# EAGLE library part LM13700 (library OTAs)
Dual OTA with linearizing diode and output buffers - 2MHz open-loop bandwidth - Linearizing diodes reduces distortion at higher differential input voltages - Darlington output buffers enables low-impedance output LM13700 or LM13600 The LM13700 differs from the LM13600 in that the 13700's output buffers are biased independently from the transconductance amplifier, allowing superior performance in audio applications. Originally released by National Semiconductor Manufactured by Texas Instruments.
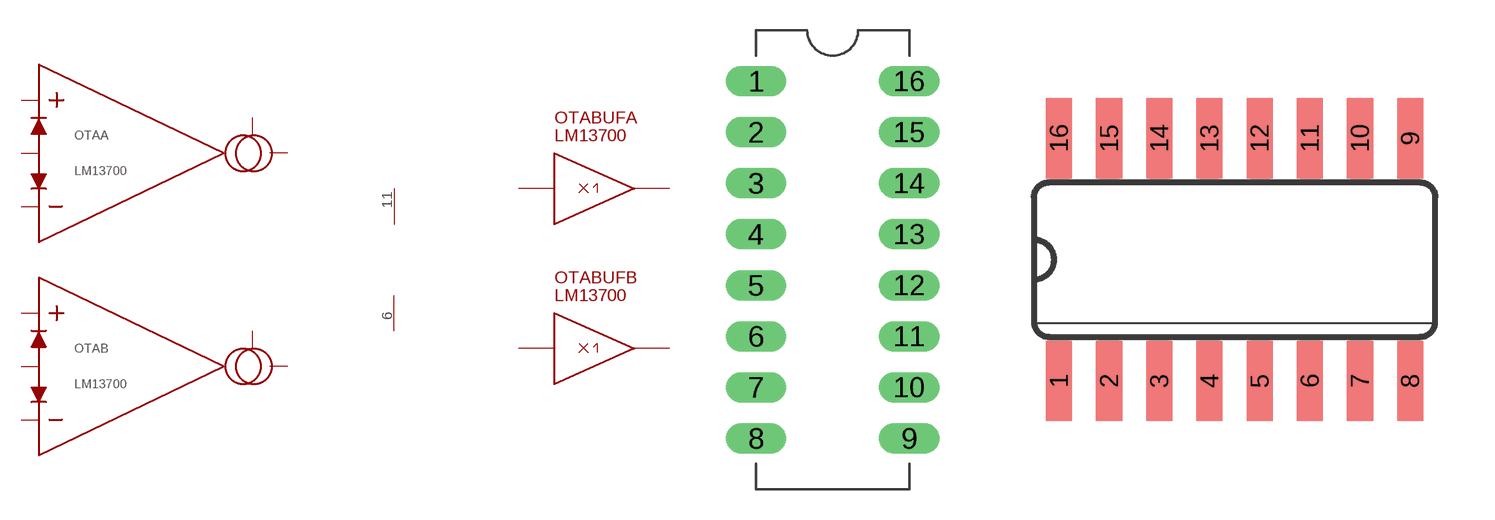
[diagram p0: symbol with the pads of DIP16; footprints DIP16, SO16]

Designator prefix OTA; gates A=OTA B=OTA PWR=POWERPIN BUFA=BUFFER BUFB=BUFFER

## LM13700N  [DIP16]
1  A:IABC  in
2  A:BIAS  in
3  A:IN+  in
4  A:IN-  in
5  A:IOUT  out
6  PWR:VEE  pwr
7  BUFA:IN
8  BUFA:OUT
9  BUFB:OUT
10  BUFB:IN
11  PWR:VCC  pwr
12  B:IOUT  out
13  B:IN-  in
14  B:IN+  in
15  B:BIAS  in
16  B:IABC  in

## LM13700M  [SO16]
1  A:IABC  in
2  A:BIAS  in
3  A:IN+  in
4  A:IN-  in
5  A:IOUT  out
6  PWR:VCC  pwr
7  BUFA:IN
8  BUFA:OUT
9  BUFB:OUT
10  BUFB:IN
11  PWR:VEE  pwr
12  B:IOUT  out
13  B:IN-  in
14  B:IN+  in
15  B:BIAS  in
16  B:IABC  in

## Footprint DIP16 (pad centres in mm)
drill 1 long: 1 -3.81,0; 2 -3.81,-2.54; 3 -3.81,-5.08; 4 -3.81,-7.62; 5 -3.81,-10.16; 6 -3.81,-12.7; 7 -3.81,-15.24; 8 -3.81,-17.78; 9 3.81,-17.78; 10 3.81,-15.24; 11 3.81,-12.7; 12 3.81,-10.16; 13 3.81,-7.62; 14 3.81,-5.08; 15 3.81,-2.54; 16 3.81,0

## Footprint SO16 (pad centres in mm)
Small Outline package 150 mil
smd 0.66 x 2.032: 1 -4.445,-3.073; 2 -3.175,-3.073; 3 -1.905,-3.073; 4 -0.635,-3.073; 5 0.635,-3.073; 6 1.905,-3.073; 7 3.175,-3.073; 8 4.445,-3.073; 9 4.445,3.073; 10 3.175,3.073; 11 1.905,3.073; 12 0.635,3.073; 13 -0.635,3.073; 14 -1.905,3.073; 15 -3.175,3.073; 16 -4.445,3.073